# Altium footprint library TornioCeramica.PcbLib: 12 footprints
Each footprint in its own frame and in the unit in brackets; x right, y up, seen from the top. Pads: shape width x height; smd on the part's side, far side on the other; paste and mask are expansions set on the pad; w line width, h text height; cw(c..) or ccw(c..) is an arc to the next point about the centre after c.
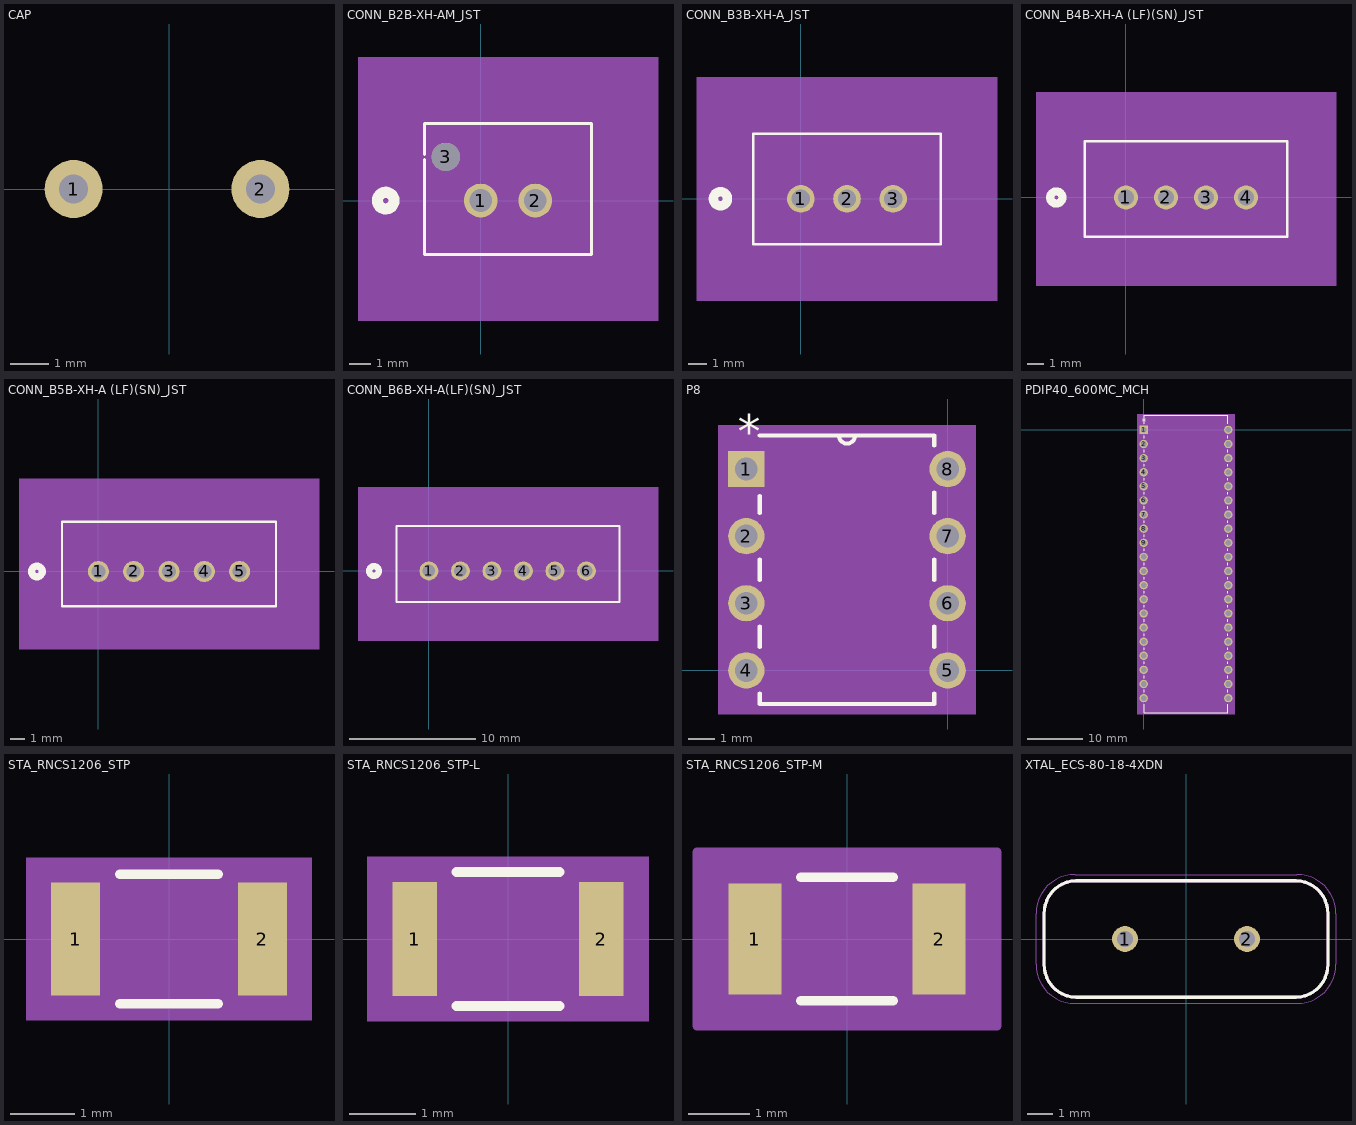
[diagram p0: the footprints below, top view; thin cyan lines are the x and y axes]

## CAP [mil] "grid 5mm"
pads (2):
  round 60 hole 30: 1(-98.5,0) 2(94.5,0)
Top Overlay:
  text ".Comment" at -155,-140 h60
  text ".Designator" at -150,84.99 h60
Top Paste:
  lines w10: -155,-45 155,-45 155,45 -155,45 -155,-45
3D body: height 196, standoff 0, extent -150,-40 150,40

## CONN_B2B-XH-AM_JST [mil]
pads (3):
  round 61 hole 41 mask+0: 1(0,0) 2(98.43,0)
  round 51 hole 51 unplated: 3(-62.99,78.74)
Top Overlay:
  circle w20: c-171.29,0 r15
  lines w6: -101.29,73.9 -101.29,-97.14 199.71,-97.14 199.71,138.86 -101.29,138.86 -101.29,83.58
Bottom Overlay:
  circle w20: c-171.29,0 r15
Mechanical 5:
  region: -221.29,258.86 319.71,258.86 319.71,-217.14 -221.29,-217.14
Mechanical 13:
  circle w20: c0,75 r15
  lines w1: -96.29,-92.14 194.71,-92.14 194.71,133.86 -96.29,133.86 -96.29,-92.14
Mechanical 15:
  region: 204.71,143.86 -106.29,143.86 -106.29,-102.14 204.71,-102.14
  lines w6: -106.29,-102.14 -106.29,143.86 204.71,143.86 204.71,-102.14 -106.29,-102.14
3D body: height 10, standoff 0, extent 0,0 10,10

## CONN_B3B-XH-A_JST [mil]
pads (3):
  round 59 hole 39 mask+0: 1(0,0) 2(98.43,0) 3(196.85,0)
Top Overlay:
  circle w20: c-171.57,0 r15
  lines w6: -101.57,-97.14 298.43,-97.14 298.43,138.86 -101.57,138.86 -101.57,-97.14
Bottom Overlay:
  circle w20: c-171.57,0 r15
Mechanical 5:
  region: -221.57,258.86 418.43,258.86 418.43,-217.14 -221.57,-217.14
Mechanical 13:
  circle w20: c0,75 r15
  lines w1: -96.57,-92.14 293.43,-92.14 293.43,133.86 -96.57,133.86 -96.57,-92.14
Mechanical 15:
  region: 303.43,143.86 -106.57,143.86 -106.57,-102.14 303.43,-102.14
  lines w6: -106.57,-102.14 -106.57,143.86 303.43,143.86 303.43,-102.14 -106.57,-102.14
3D body: height 10, standoff 0, extent 0,0 10,10

## CONN_B4B-XH-A (LF)(SN)_JST [mil]
pads (4):
  round 59 hole 39 mask+0: 1(0,0) 2(98.43,0) 3(196.86,0) 4(295.29,0)
Top Overlay:
  circle w20: c-171.35,0 r15
  lines w6: -101.36,-97.14 396.64,-97.14 396.64,138.86 -101.36,138.86 -101.36,-97.14
Bottom Overlay:
  circle w20: c-171.35,0 r15
Mechanical 5:
  region: -221.35,258.86 516.64,258.86 516.64,-217.14 -221.35,-217.14
Mechanical 13:
  circle w20: c0,-75 r15
  lines w1: -96.36,-92.14 391.64,-92.14 391.64,133.86 -96.36,133.86 -96.36,-92.14
Mechanical 15:
  region: 401.64,143.86 -106.36,143.86 -106.36,-102.14 401.64,-102.14
  lines w6: -106.36,-102.14 -106.36,143.86 401.64,143.86 401.64,-102.14 -106.36,-102.14
3D body: height 10, standoff 0, extent 0,0 10,10

## CONN_B5B-XH-A (LF)(SN)_JST [mil]
pads (5):
  round 59 hole 39 mask+0: 1(0,0) 2(98.43,0) 3(196.86,0) 4(295.29,0) 5(393.72,0)
Top Overlay:
  circle w20: c-171.64,0 r15
  lines w6: -101.64,-97.14 -101.64,138.86 495.36,138.86 495.36,-97.14 -101.64,-97.14
Bottom Overlay:
  circle w20: c-171.64,0 r15
Mechanical 5:
  region: -221.64,258.86 615.36,258.86 615.36,-217.14 -221.64,-217.14
Mechanical 13:
  circle w20: c0,-75 r15
  lines w1: -96.64,-92.14 -96.64,133.86 490.36,133.86 490.36,-92.14 -96.64,-92.14
Mechanical 15:
  region: 500.36,143.86 -106.64,143.86 -106.64,-102.14 500.36,-102.14
  lines w6: -106.64,-102.14 500.36,-102.14 500.36,143.86 -106.64,143.86 -106.64,-102.14
3D body: height 10, standoff 0, extent 0,0 10,10

## CONN_B6B-XH-A(LF)(SN)_JST [mil]
pads (6):
  round 59 hole 39 mask+0: 1(0,0) 2(98.43,0) 3(196.85,0) 4(295.28,0) 5(393.7,0) 6(492.13,0)
Top Overlay:
  circle w20: c-171.45,0 r15
  lines w6: -101.45,-97.17 -101.45,140.83 595.55,140.83 595.55,-97.17 -101.45,-97.17
Bottom Overlay:
  circle w20: c-171.45,0 r15
Mechanical 5:
  region: -221.45,260.83 715.55,260.83 715.55,-217.17 -221.45,-217.17
Mechanical 13:
  circle w20: c0,-75 r15
  lines w1: -96.45,-92.17 -96.45,135.83 590.55,135.83 590.55,-92.17 -96.45,-92.17
Mechanical 15:
  region: 600.55,145.83 -106.45,145.83 -106.45,-102.17 600.55,-102.17
  lines w6: -106.45,-102.17 600.55,-102.17 600.55,145.83 -106.45,145.83 -106.45,-102.17
3D body: height 10, standoff 0, extent 0,0 10,10

## P8 [mil]
pads (8):
  rect 54x54 hole 34: 1(-300,300)
  round 54 hole 34: 2(-300,200) 3(-300,100) 4(-300,0) 5(0,0) 6(0,100) 7(0,200) 8(0,300)
Top Overlay:
  lines w6: -280,-34.76 -280,-50 -20,-50 -20,-34.76 ; -280,34.76 -280,65.24 ; -280,134.76 -280,165.24 ; -280,234.76 -280,259.9 ; -280,350 -20,350 -20,334.76 ; -162,350 ccw(c-150,350) -138,350 ; -20,34.76 -20,65.24 ; -20,134.76 -20,165.24 ; -20,234.76 -20,265.24
  text "*" at -312.5,332 h50
Mechanical 5:
  region: 42,-65 -342,-65 -342,365 42,365
Mechanical 13:
  lines w0: -162,350 ccw(c-150,350) -138,350
  lines w1: -317,-17 -280,-17 -280,17 -317,17 -317,-17 ; -317,83 -280,83 -280,117 -317,117 -317,83 ; -317,183 -280,183 -280,217 -317,217 -317,183 ; -317,283 -280,283 -280,317 -317,317 -317,283 ; -280,-50 -280,350 -20,350 -20,-50 -280,-50 ; -20,-17 17,-17 17,17 -20,17 -20,-17 ; -20,83 17,83 17,117 -20,117 -20,83 ; -20,183 17,183 17,217 -20,217 -20,183 ; -20,283 17,283 17,317 -20,317 -20,283
  text "*" at -312.5,332 h50
Mechanical 15:
  region: 37,-60 -337,-60 -337,360 37,360
  lines w6: -337,-60 -337,360 37,360 37,-60 -337,-60
3D body "P8.step": height 205.12, standoff -100, extent -310,-50 10,350

## PDIP40_600MC_MCH [mil]
pads (40):
  rect 59x59 hole 39 mask+0: 1(0,0)
  round 59 hole 39 mask+0: 2(0,-100) 3(0,-200) 4(0,-300) 5(0,-400) 6(0,-500) 7(0,-600) 8(0,-700) 9(0,-800) 10(0,-900) 11(0,-1000) 12(0,-1100) 13(0,-1200) 14(0,-1300) 15(0,-1400) 16(0,-1500) 17(0,-1600) 18(0,-1700) 19(0,-1800) 20(0,-1900) 21(600,-1900) 22(600,-1800) 23(600,-1700) 24(600,-1600) 25(600,-1500) 26(600,-1400) 27(600,-1300) 28(600,-1200) 29(600,-1100) 30(600,-1000) 31(600,-900) 32(600,-800) 33(600,-700) 34(600,-600) 35(600,-500) 36(600,-400) 37(600,-300) 38(600,-200) 39(600,-100) 40(600,0)
Top Overlay:
  lines w6: 5,-1942.31 5,-2002.5 595,-2002.5 595,-1942.31 ; 5,-1857.69 5,-1842.31 ; 5,-1757.69 5,-1742.31 ; 5,-1657.69 5,-1642.31 ; 5,-1557.69 5,-1542.31 ; 5,-1457.69 5,-1442.31 ; 5,-1357.69 5,-1342.31 ; 5,-1257.69 5,-1242.31 ; 5,-1157.69 5,-1142.31 ; 5,-1057.69 5,-1042.31 ; 5,-957.69 5,-942.31 ; 5,-857.69 5,-842.31 ; 5,-757.69 5,-742.31 ; 5,-657.69 5,-642.31 ; 5,-557.69 5,-542.31 ; 5,-457.69 5,-442.31 ; 5,-357.69 5,-342.31 ; 5,-257.69 5,-242.31 ; 5,-157.69 5,-142.31 ; 5,-57.69 5,-42.6 ; 5,42.6 5,102.5 595,102.5 595,42.31 ; 595,-1857.69 595,-1842.31 ; 595,-1757.69 595,-1742.31 ; 595,-1657.69 595,-1642.31 ; 595,-1557.69 595,-1542.31 ; 595,-1457.69 595,-1442.31 ; 595,-1357.69 595,-1342.31 ; 595,-1257.69 595,-1242.31 ; 595,-1157.69 595,-1142.31 ; 595,-1057.69 595,-1042.31 ; 595,-957.69 595,-942.31 ; 595,-857.69 595,-842.31 ; 595,-757.69 595,-742.31 ; 595,-657.69 595,-642.31 ; 595,-557.69 595,-542.31 ; 595,-457.69 595,-442.31 ; 595,-357.69 595,-342.31 ; 595,-257.69 595,-242.31 ; 595,-157.69 595,-142.31 ; 595,-57.69 595,-42.31
  text "*" at -12.5,34.5 h50
Mechanical 5:
  region: 644.5,-2012.5 -44.5,-2012.5 -44.5,112.5 644.5,112.5
Mechanical 13:
  drawing of 165 lines, arcs and shapes, not listed
  text "*" at 7.5,-25 h50
Mechanical 15:
  region: 600,-1940 639.5,-1940 639.5,40 600,40 600,107.5 0,107.5 0,40 -39.5,40 -39.5,-1940 0,-1940 0,-2007.5 600,-2007.5
  lines w6: -39.5,-1940 -39.5,40 0,40 0,107.5 600,107.5 600,40 639.5,40 639.5,-1940 600,-1940 600,-2007.5 0,-2007.5 0,-1940 -39.5,-1940
3D body "PDIP40_600MC_MCH.step": height 255.12, standoff -100, extent -5,-1997.48 615,97.48

## STA_RNCS1206_STP [mil]
pads (2):
  rect 30x69 smd paste+0 mask+0: 1(-57,0) 2(57,0)
Top Overlay:
  lines w6: -29.89,-39.5 29.89,-39.5 ; -29.89,39.5 29.89,39.5
Mechanical 5:
  region: 87,-49.5 -87,-49.5 -87,49.5 87,49.5
Mechanical 13:
  lines w1: -64,-34.5 -64,34.5 ; -64,-34.5 -42,-34.5 -42,34.5 -64,34.5 ; -64,-34.5 64,-34.5 ; -64,-34.5 -64,34.5 ; -64,34.5 64,34.5 ; 64,-34.5 42,-34.5 42,34.5 64,34.5 ; 64,-34.5 64,34.5 ; 64,-34.5 64,34.5
Mechanical 15:
  region: 82,-44.5 -82,-44.5 -82,44.5 82,44.5
  lines w6: -82,-44.5 -82,44.5 82,44.5 82,-44.5 -82,-44.5
3D body "STA_RNCS1206_STP.step": height 25.98, standoff 0, extent -64.02,-34.49 64.02,34.49

## STA_RNCS1206_STP-L [mil]
pads (2):
  rect 26x67 smd paste+0 mask+0: 1(-55,0) 2(55,0)
Top Overlay:
  lines w6: -30.35,-39.5 30.35,-39.5 ; -30.35,39.5 30.35,39.5
Mechanical 5:
  region: 83,-48.5 -83,-48.5 -83,48.5 83,48.5
Mechanical 13:
  lines w1: -64,-34.5 -64,34.5 ; -64,-34.5 64,-34.5 ; -64,-34.5 -42,-34.5 -42,34.5 -64,34.5 ; -64,-34.5 -64,34.5 ; -64,34.5 64,34.5 ; 64,-34.5 64,34.5 ; 64,-34.5 64,34.5 ; 64,-34.5 42,-34.5 42,34.5 64,34.5
Mechanical 15:
  region: 72,-37.5 -72,-37.5 -72,37.5 72,37.5
  lines w6: -72,-37.5 72,-37.5 72,37.5 -72,37.5 -72,-37.5
3D body "STA_RNCS1206_STP.step": height 25.98, standoff 0, extent -64.02,-34.49 64.02,34.49

## STA_RNCS1206_STP-M [mil]
pads (2):
  rect 34x71 smd paste+0 mask+0: 1(-59,0) 2(59,0)
Top Overlay:
  lines w6: -29.53,-39.5 29.53,-39.5 ; -29.53,39.5 29.53,39.5
  text ".Designator" at -100,79.99 h60
  text ".Value" at -90,-130 h60
Mechanical 5:
  region: 91,-50.5 -91,-50.5 -91,50.5 91,50.5
Mechanical 13:
  lines w1: -64,-34.5 -64,34.5 ; -64,-34.5 -42,-34.5 -42,34.5 -64,34.5 ; -64,-34.5 64,-34.5 ; -64,-34.5 -64,34.5 ; -64,34.5 64,34.5 ; 64,-34.5 42,-34.5 42,34.5 64,34.5 ; 64,-34.5 64,34.5 ; 64,-34.5 64,34.5
Mechanical 15:
  region: 96,-55.5 -96,-55.5 -96,55.5 96,55.5
  lines w6: -96,-55.5 -96,55.5 96,55.5 96,-55.5 -96,-55.5
3D body "STA_RNCS1206_STP.step": height 25.98, standoff 0, extent -64.02,-34.49 64.02,34.49

## XTAL_ECS-80-18-4XDN [mm]
pads (2):
  round 1.03 hole 0.63: 1(-2.44,0) 2(2.44,0)
Top Overlay:
  lines w0.127: -5.675,-1.012 ccw(c-4.38,-1.035) -4.403,-2.33 ; -5.675,-1.01 -5.675,1.01 ; -5.675,1.012 cw(c-4.38,1.035) -4.403,2.33 ; -4.405,-2.33 4.405,-2.33 ; -4.405,2.33 4.405,2.33 ; 4.403,-2.33 ccw(c4.38,-1.035) 5.675,-1.012 ; 4.403,2.33 cw(c4.38,1.035) 5.675,1.012 ; 5.675,-1.01 5.675,1.01
Mechanical 13:
  lines w0.127: -5.675,-1.012 ccw(c-4.38,-1.035) -4.403,-2.33 ; -5.675,-1.01 -5.675,1.01 ; -5.675,1.012 cw(c-4.38,1.035) -4.403,2.33 ; -4.405,-2.33 4.405,-2.33 ; -4.405,2.33 4.405,2.33 ; 4.403,-2.33 ccw(c4.38,-1.035) 5.675,-1.012 ; 4.403,2.33 cw(c4.38,1.035) 5.675,1.012 ; 5.675,-1.01 5.675,1.01
Mechanical 15:
  lines w0.05: -6,-1.01 ccw(c-4.43,-1.01) -4.43,-2.58 4.43,-2.58 ccw(c4.43,-1.01) 6,-1.01 6,1.01 ccw(c4.43,1.01) 4.43,2.58 -4.43,2.58 ccw(c-4.43,1.01) -6,1.01 -6,-1.01